# Altium footprint library USB protection.PcbLib: 1 footprints
Each footprint in its own frame and in the unit in brackets; x right, y up, seen from the top. Pads: shape width x height; smd on the part's side, far side on the other; paste and mask are expansions set on the pad; w line width, h text height; cw(c..) or ccw(c..) is an arc to the next point about the centre after c.
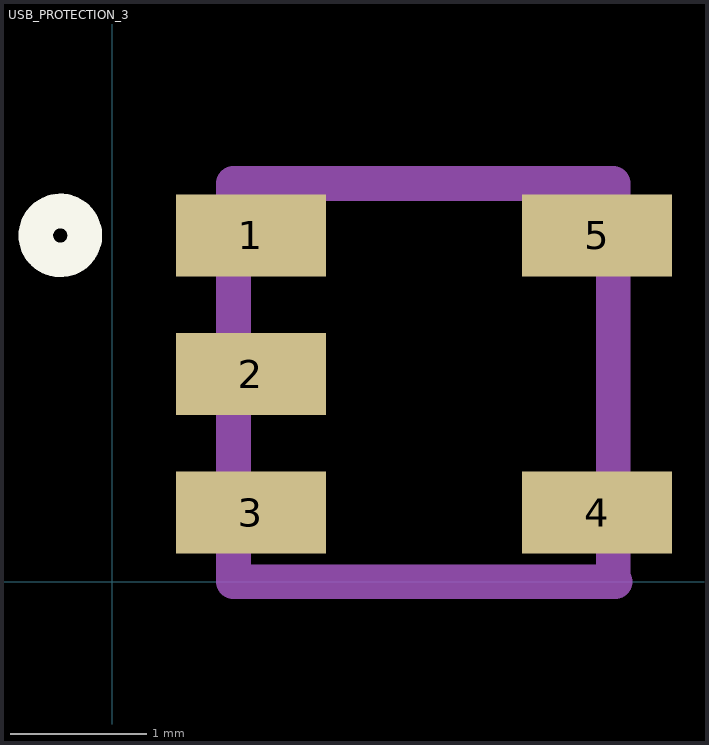
[diagram p0: the footprint, top view; thin cyan lines are the x and y axes]

## USB_PROTECTION_3 [mm]
pads (5):
  rect 1.1x0.6 smd: 1(1.016,2.54) 2(1.016,1.524) 3(1.016,0.508) 4(3.556,0.508) 5(3.556,2.54)
Top Overlay:
  circle w0.254: c-0.381,2.54 r0.18
Mechanical 1:
  lines w0.254: 3.675,0 3.675,2.921 0.889,2.921 0.889,0 3.689,0
3D body: height 2.92, standoff 0, extent 1.016,0.508 3.556,2.54